# EAGLE library part MC74HC4051A (library elements)
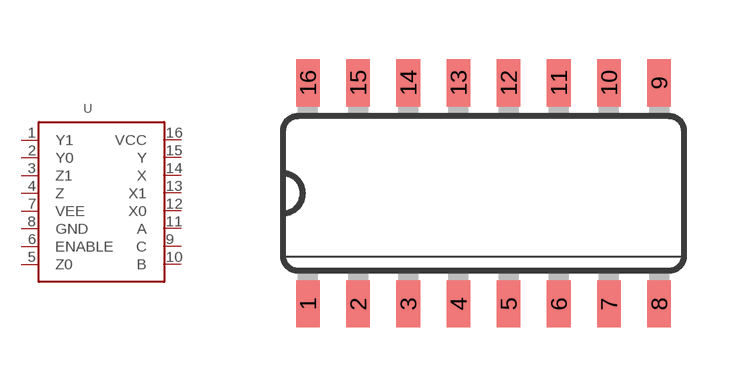
[diagram p5: symbol with the pads of SOIC-16; footprint SOIC-16]

Designator prefix -

## MC74HC4051AMC74HC4051AG  [SOIC-16]
1  Y1
2  Y0
3  Z1
4  Z
5  Z0
6  ENABLE
7  VEE
8  GND
9  C
10  B
11  A
12  X0
13  X1
14  X
15  Y
16  VCC

## Footprint SOIC-16 (pad centres in mm)
Small Outline package 150 mil
smd 0.6 x 1.2: 1 -4.445,-2.8; 2 -3.175,-2.8; 3 -1.905,-2.8; 4 -0.635,-2.8; 5 0.635,-2.8; 6 1.905,-2.8; 7 3.175,-2.8; 8 4.445,-2.8; 9 4.445,2.8; 10 3.175,2.8; 11 1.905,2.8; 12 0.635,2.8; 13 -0.635,2.8; 14 -1.905,2.8; 15 -3.175,2.8; 16 -4.445,2.8